# Altium schematic symbol library MSASJ021SB5103KWNA01.SchLib: 1 symbol
Pins are listed as number, name and electrical type; pins without a type are passive.

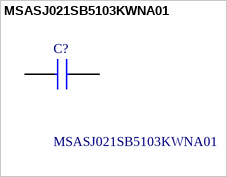
[diagram p0: symbol MSASJ021SB5103KWNA01]

## MSASJ021SB5103KWNA01
designator C?
Multilayer Ceramic Capacitors MLCC - SMD/SMT 6.3V 0.01uF X5R 00804 10%; Manufacturer_Name: TAIYO YUDEN; Geometry.Height: 0.138mm; Manufacturer_Part_Number: MSASJ021SB5103KWNA01; Mouser Part Number: *; Mouser Price/Stock: *; Arrow Part Number: *; Arrow Price/Stock: *; Datasheet Link: https://ds.yuden.co.jp/TYCOMPAS/or/detail?pn=MSASJ021SB5103KWNA01&u=I
footprint CAPC0201X14N
pins: 1, 2